# EAGLE library part TLC072 (library ee2parts)
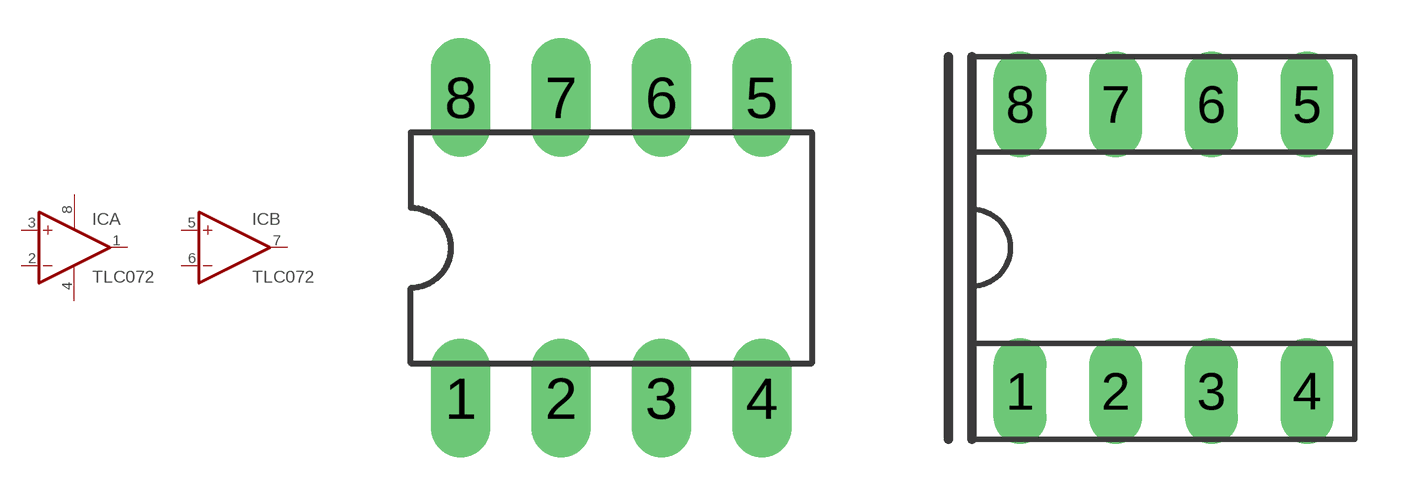
[diagram p3: symbol with the pads of DIL8; footprints DIL8, SOCKED-08]

Designator prefix IC; gates A=OP-AMP+- B=OP-AMP

## TLC072N  [DIL8]
1  A:OUT  out
2  A:-IN  in
3  A:+IN  in
4  A:V-  pwr
5  B:+IN  in
6  B:-IN  in
7  B:OUT  out
8  A:V+  pwr

## TLC072S  [SOCKED-08]
Pads as for DIL8

## Footprint DIL8 (pad centres in mm)
drill 1 long: 1 -2.54,-3.81; 2 0,-3.81; 3 2.54,-3.81; 4 5.08,-3.81; 5 5.08,3.81; 6 2.54,3.81; 7 0,3.81; 8 -2.54,3.81

## Footprint SOCKED-08 (pad centres in mm)
Dual In Line Socket
drill 0.9 long: 1 -3.81,-3.81; 2 -1.27,-3.81; 3 1.27,-3.81; 4 3.81,-3.81; 5 3.81,3.81; 6 1.27,3.81; 7 -1.27,3.81; 8 -3.81,3.81